# Altium schematic symbol library LM2576.SchLib: 1 symbol
Pins are listed as number, name and electrical type; pins without a type are passive.

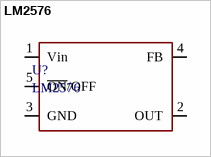
[diagram p0: symbol LM2576]

## LM2576
designator U?
SIMPLE SWITCHER® 3A Step-Down Voltage Regulator
footprint TO263-5 (D2-PAK, 4-Leads, Body 8.8x10.4mm, Pitch 2.54mm, Lead Span 15.1mm, IPC Medium Density)
pins: 1 Vin, 2 OUT, 3 GND, 4 FB, 5 ~{ON}/OFF